# Altium schematic symbol library 74LVC1G08GW-Q100.Schlib: 1 symbol
Pins are listed as number, name and electrical type; pins without a type are passive.

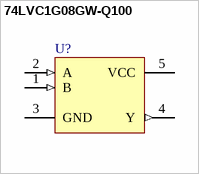
[diagram p0: symbol 74LVC1G08GW-Q100]

## 74LVC1G08GW-Q100
designator U?
Single 2-Input Positive AND Gate
pins: 1 B (in), 2 A (in), 3 GND (power), 4 Y (out), 5 VCC (power)